# Altium integrated library BD140.IntLib: 1 symbol
Pins are listed as number, name and electrical type; pins without a type are passive.

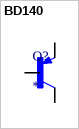
[diagram p0: symbol BD140]

## BD140
designator Q?
Bipolar (BJT) Transistor PNP 80 V 1.5 A - 1.25 W Through Hole TO-126-3; MF: ON Semiconductor; MP: BD140; SnapEDA_Link: https://www.snapeda.com/parts/BD140/Onsemi/view-part/?ref=snap; Package: TO-225-3 ON Semiconductor; Value: *; Check_prices: https://www.snapeda.com/parts/BD140/Onsemi/view-part/?ref=eda
footprint TO229P760X270X1364-3
pins: 1 E, 2 C, 3 B